# EAGLE library part USB2507 (library WakamelibGOOD)
usb 2507 hub on chiip
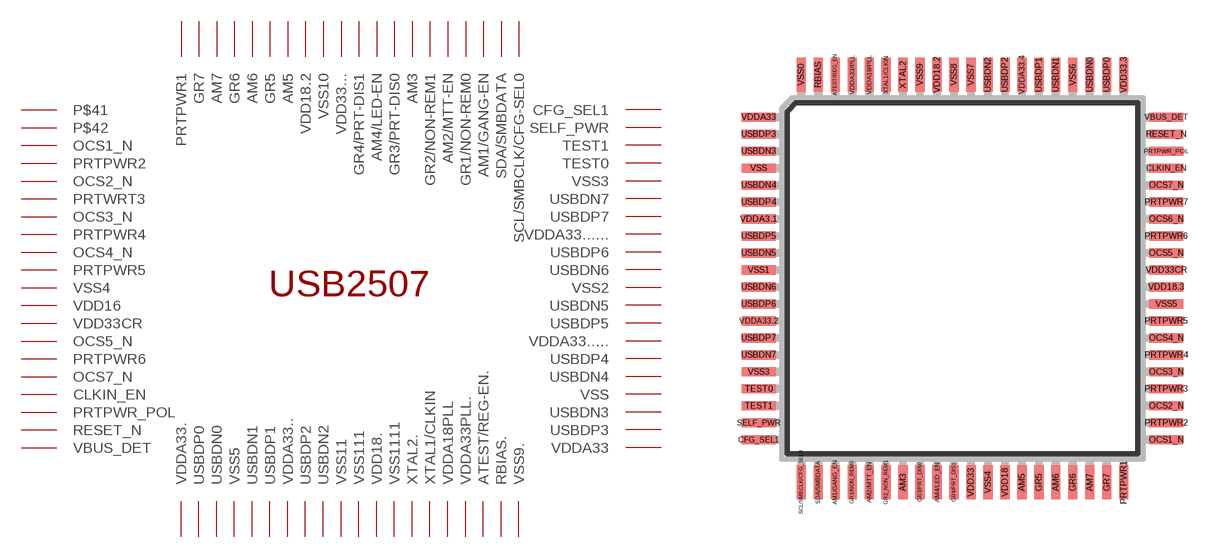
[diagram p6: symbol with the pads of TQFP80; footprint TQFP80]

Designator prefix -

## USB2507  [TQFP80]
AM1/GANG_EN  AM1/GANG-EN
AM2/MTT_EN  AM2/MTT-EN
AM3  AM3
AM4/LED_EN  AM4/LED-EN
AM5  AM5
AM6  AM6
AM7  AM7
ATEST/REG_EN  ATEST/REG-EN.
CFG_SEL1  CFG_SEL1
CLKIN_EN  CLKIN_EN
GR1/NON_REM0  GR1/NON-REM0
GR2_NON_REM1  GR2/NON-REM1
GR3/PRT_DIS0  GR3/PRT-DIS0
GR4/PRT_DIS1  GR4/PRT-DIS1
GR5  GR5
GR6  GR6
GR7  GR7
OCS1_N  P$41
OCS2_N  OCS1_N
OCS3_N  OCS2_N
OCS4_N  OCS3_N
OCS5_N  VDD16
OCS6_N  OCS5_N
OCS7_N  OCS7_N
PRTPWR1  PRTPWR1
PRTPWR2  P$42
PRTPWR3  PRTPWR2
PRTPWR4  PRTWRT3
PRTPWR5  PRTPWR4
PRTPWR6  VDD33CR
PRTPWR7  PRTPWR6
PRTPWR_POL  PRTPWR_POL
RBIAS  RBIAS.
RESET_N  RESET_N
SCL/SMBCLK/CFG_SEL0  SCL/SMBCLK/CFG-SEL0
SDA/SMBDATA  SDA/SMBDATA
SELF_PWR  SELF_PWR
TEST0  TEST0
TEST1  TEST1
USBDN0  USBDN0
USBDN1  USBDN1
USBDN2  USBDN2
USBDN3  USBDN3
USBDN4  USBDN4
USBDN5  USBDN5
USBDN6  USBDN6
USBDN7  USBDN7
USBDP0  USBDP0
USBDP1  USBDP1
USBDP2  USBDP2
USBDP3  USBDP3
USBDP4  USBDP4
USBDP5  USBDP5
USBDP6  USBDP6
USBDP7  USBDP7
VBUS_DET  VBUS_DET
VDD18  VDD18.2
VDD18.2  PRTPWR5
VDD18.3  VDD18.
VDD33  VDDA33
VDD33.3  VDD33...
VDD33CR  VSS4
VDDA3.1  VDDA33..
VDDA18/PLL  VDDA18PLL
VDDA33  VDDA33.....
VDDA33.2  VDDA33......
VDDA33.4  VDDA33.
VDDA33/PLL  VDDA33PLL.
VSS  VSS
VSS0  VSS9.
VSS1  VSS2
VSS3  VSS3
VSS4  VSS10
VSS5  OCS4_N
VSS6  VSS5
VSS7  VSS11
VSS8  VSS111
VSS9  VSS1111
XTAL1/CLKIN  XTAL1/CLKIN
XTAL2  XTAL2.

## Footprint TQFP80 (pad centres in mm)
TQFP 80 thin quad flat pack Source: www.atmwel.com .. doc4109.pdf
smd 0.35 x 1.3: AM1/GANG_EN -4.875,-7.8; AM2/MTT_EN -3.575,-7.8; AM3 -2.275,-7.8; AM4/LED_EN -0.975,-7.8; AM5 2.275,-7.8; AM6 3.575,-7.8; AM7 4.875,-7.8; ATEST/REG_EN -4.875,7.8; GR1/NON_REM0 -4.225,-7.8; GR2_NON_REM1 -2.925,-7.8; GR3/PRT_DIS0 -1.625,-7.8; GR4/PRT_DIS1 -0.325,-7.8; GR5 2.925,-7.8; GR6 4.225,-7.8; GR7 5.525,-7.8; PRTPWR1 6.175,-7.8; RBIAS -5.525,7.8; SCL/SMBCLK/CFG_SEL0 -6.175,-7.8; SDA/SMBDATA -5.525,-7.8; USBDN0 4.875,7.8; USBDN1 3.575,7.8; USBDN2 0.975,7.8; USBDP0 5.525,7.8; USBDP1 2.925,7.8; USBDP2 1.625,7.8; VDD18 1.625,-7.8; VDD18.2 -0.975,7.8; VDD33 0.325,-7.8; VDD33.3 6.175,7.8; VDDA18/PLL -3.575,7.8; VDDA33.4 2.275,7.8; VDDA33/PLL -4.225,7.8; VSS0 -6.175,7.8; VSS4 0.975,-7.8; VSS6 4.225,7.8; VSS7 0.325,7.8; VSS8 -0.325,7.8; VSS9 -1.625,7.8; XTAL1/CLKIN -2.925,7.8; XTAL2 -2.275,7.8
smd 1.3 x 0.35: CFG_SEL1 -7.8,-6.175; CLKIN_EN 7.8,4.225; OCS1_N 7.8,-6.175; OCS2_N 7.8,-4.875; OCS3_N 7.8,-3.575; OCS4_N 7.8,-2.275; OCS5_N 7.8,0.975; OCS6_N 7.8,2.275; OCS7_N 7.8,3.575; PRTPWR2 7.8,-5.525; PRTPWR3 7.8,-4.225; PRTPWR4 7.8,-2.925; PRTPWR5 7.8,-1.625; PRTPWR6 7.8,1.625; PRTPWR7 7.8,2.925; PRTPWR_POL 7.8,4.875; RESET_N 7.8,5.525; SELF_PWR -7.8,-5.525; TEST0 -7.8,-4.225; TEST1 -7.8,-4.875; USBDN3 -7.8,4.875; USBDN4 -7.8,3.575; USBDN5 -7.8,0.975; USBDN6 -7.8,-0.325; USBDN7 -7.8,-2.925; USBDP3 -7.8,5.525; USBDP4 -7.8,2.925; USBDP5 -7.8,1.625; USBDP6 -7.8,-0.975; USBDP7 -7.8,-2.275; VBUS_DET 7.8,6.175; VDD18.3 7.8,-0.325; VDD33CR 7.8,0.325; VDDA3.1 -7.8,2.275; VDDA33 -7.8,6.175; VDDA33.2 -7.8,-1.625; VSS -7.8,4.225; VSS1 -7.8,0.325; VSS3 -7.8,-3.575; VSS5 7.8,-0.975